# EAGLE library part M09(674-0836) (library TheMaker_con-subd)
DSUB 9PIN Male RS 674-0836
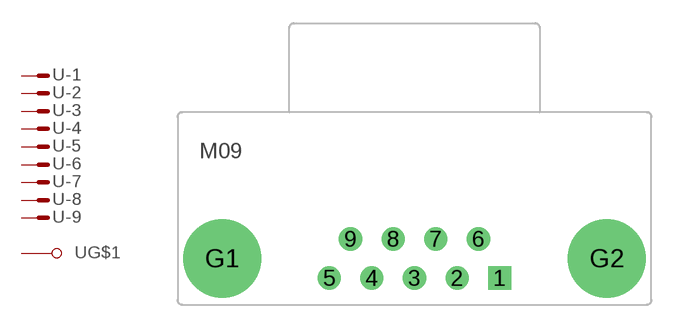
[diagram p76: symbol with the pads of A-DS09A/KG-T2; footprint A-DS09A/KG-T2]

Designator prefix -; gates -1=M -2=M -3=M -4=M -5=M -6=M -7=M -8=M -9=M G$1=G

## M09(674-0836)  [A-DS09A/KG-T2]
1  -1:M  pas
2  -2:M  pas
3  -3:M  pas
4  -4:M  pas
5  -5:M  pas
6  -6:M  pas
7  -7:M  pas
8  -8:M  pas
9  -9:M  pas
G1  G$1:G  pas
G2  G$1:G  pas

## Footprint A-DS09A/KG-T2 (pad centres in mm)
D-SUB9 Male ASSMANN WSW
drill 1 square: 1 5.54,0
drill 1: 2 2.77,0; 3 0,0; 4 -2.77,0; 5 -5.54,0; 6 4.155,2.54; 7 1.385,2.54; 8 -1.385,2.54; 9 -4.155,2.54
drill 3.1 pad 5.08: G1 -12.5,1.27; G2 12.5,1.27